# Altium footprint library PcbLib1.PcbLib: 13 footprints
Each footprint in its own frame and in the unit in brackets; x right, y up, seen from the top. Pads: shape width x height; smd on the part's side, far side on the other; paste and mask are expansions set on the pad; w line width, h text height; cw(c..) or ccw(c..) is an arc to the next point about the centre after c.
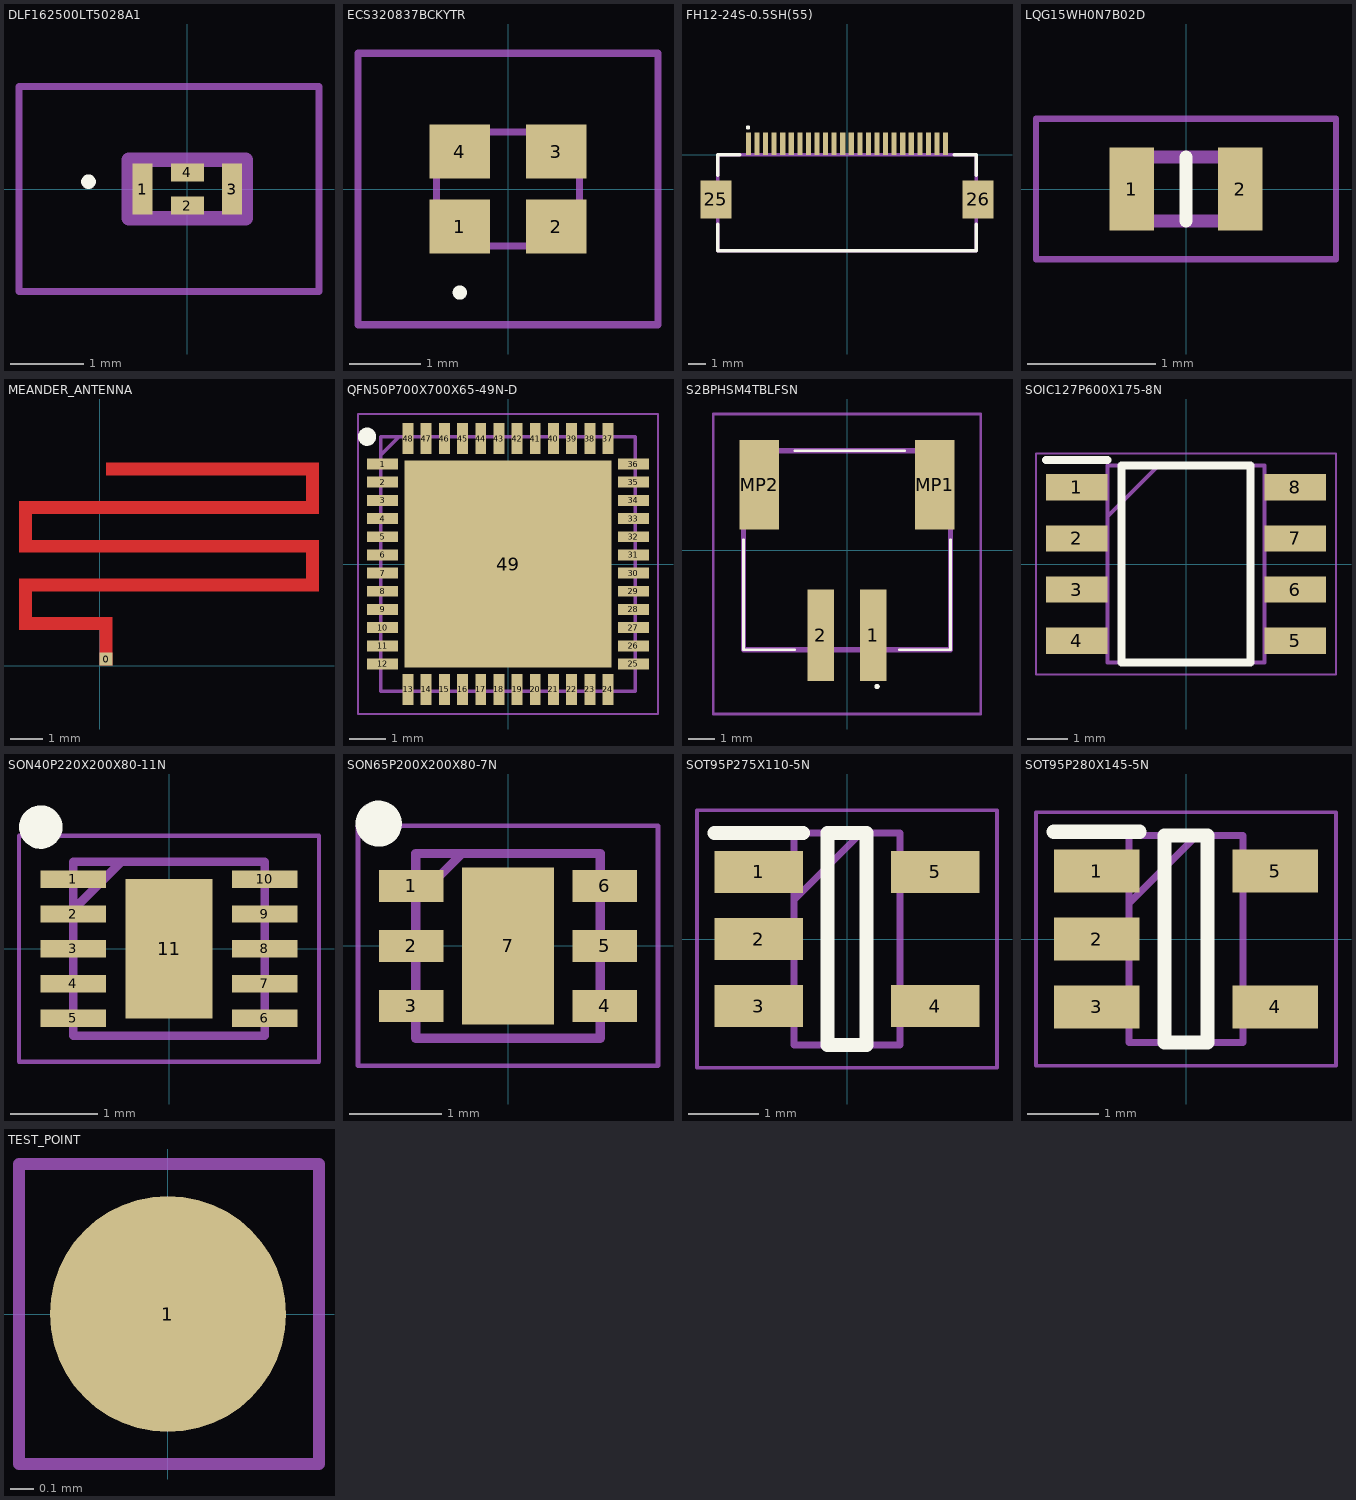
[diagram p0: the footprints below, top view; thin cyan lines are the x and y axes]

## DLF162500LT5028A1 [mm]
pads (4):
  rect 0.275x0.7 smd: 1(-0.612,0) 3(0.613,0)
  rect 0.45x0.245 smd: 2(0,-0.227) 4(0,0.227)
Top Overlay:
  lines w0.1: -1.4,0.1 cw(c-1.35,0.1) -1.3,0.1 cw(c-1.35,0.1) -1.4,0.1
Mechanical 13:
  lines w0.2: -0.8,-0.4 0.8,-0.4 0.8,0.4 -0.8,0.4 -0.8,-0.4
Mechanical 15:
  lines w0.1: -2.3,-1.4 1.8,-1.4 1.8,1.4 -2.3,1.4 -2.3,-1.4
3D body "DLF162500LT-5028A1.stp": height 0.26, standoff 0, extent -0.826,-0.419 0.826,0.419

## ECS320837BCKYTR [mm]
pads (4):
  rect 0.85x0.75 smd: 1(-0.675,-0.525) 2(0.675,-0.525) 3(0.675,0.525) 4(-0.675,0.525)
Top Overlay:
  lines w0.1: -0.675,-1.5 cw(c-0.675,-1.45) -0.675,-1.4 cw(c-0.675,-1.45) -0.675,-1.5
Mechanical 13:
  lines w0.1: -1,-0.8 1,-0.8 1,0.8 -1,0.8 -1,-0.8
Mechanical 15:
  lines w0.1: -2.1,-1.9 2.1,-1.9 2.1,1.9 -2.1,1.9 -2.1,-1.9
3D body "ECS-320-8-37B-CKY-TR.stp": height 0.6, standoff 0, extent -1.025,-0.825 1.025,0.825

## FH12-24S-0.5SH(55) [mm]
pads (26):
  rect 0.3x1.3 smd: 1(-5.75,0.65) 2(-5.25,0.65) 3(-4.75,0.65) 4(-4.25,0.65) 5(-3.75,0.65) 6(-3.25,0.65) 7(-2.75,0.65) 8(-2.25,0.65) 9(-1.75,0.65) 10(-1.25,0.65) 11(-0.75,0.65) 12(-0.25,0.65) 13(0.25,0.65) 14(0.75,0.65) 15(1.25,0.65) 16(1.75,0.65) 17(2.25,0.65) 18(2.75,0.65) 19(3.25,0.65) 20(3.75,0.65) 21(4.25,0.65) 22(4.75,0.65) 23(5.25,0.65) 24(5.75,0.65)
  rect 1.8x2.2 smd: 25(-7.65,-2.6) 26(7.65,-2.6)
Top Overlay:
  circle w0.2: c-5.777,1.597 r0.025
  lines w0.2: -7.55,-4.051 -7.55,-5.6 7.55,-5.6 7.55,-4.051 ; -7.55,-1.2 -7.55,0 -6.252,0 ; 6.252,0 7.55,0 7.55,-1.2
Mechanical 13:
  lines w0.2: -7.55,-5.6 7.55,-5.6 7.55,0 -7.55,0 -7.55,-5.6
3D body "FH12-24S-0.5SH_55_.stp": height 2.1, standoff 0, extent -8.053,-5.252 8.047,1.148

## LQG15WH0N7B02D [mm]
pads (2):
  rect 0.35x0.65 smd: 1(-0.425,0) 2(0.425,0)
Top Overlay:
  lines w0.1: 0,-0.25 0,0.25
Mechanical 13:
  lines w0.1: -0.5,-0.25 0.5,-0.25 0.5,0.25 -0.5,0.25 -0.5,-0.25
Mechanical 15:
  lines w0.05: -1.175,-0.55 1.175,-0.55 1.175,0.55 -1.175,0.55 -1.175,-0.55
3D body "LQG15HS2N7S02D.stp": height 0.55, standoff 0, extent -0.5,-0.25 0.5,0.25

## MEANDER_ANTENNA [mm] "2.4GHz meander antenna"
pads (1):
  rect 0.4x0.4 smd: 0(0.2,0.2)
Top Layer:
  rectangle: 0.2,5.9 6.8,6.3
  rectangle: 6.4,4.7 6.8,6.3
  rectangle: -2.5,4.7 6.8,5.1
  rectangle: -2.5,3.5 -2.1,5.1
  rectangle: -2.5,3.5 6.8,3.9
  rectangle: 6.4,2.3 6.8,3.9
  rectangle: -2.5,2.3 6.8,2.7
  rectangle: -2.5,1.1 -2.1,2.7
  rectangle: -2.5,1.1 0.4,1.5
  rectangle: 0,0 0.4,1.5

## QFN50P700X700X65-49N-D [mm]
pads (49):
  rect 0.85x0.3 smd: 1(-3.45,2.75) 2(-3.45,2.25) 3(-3.45,1.75) 4(-3.45,1.25) 5(-3.45,0.75) 6(-3.45,0.25) 7(-3.45,-0.25) 8(-3.45,-0.75) 9(-3.45,-1.25) 10(-3.45,-1.75) 11(-3.45,-2.25) 12(-3.45,-2.75) 25(3.45,-2.75) 26(3.45,-2.25) 27(3.45,-1.75) 28(3.45,-1.25) 29(3.45,-0.75) 30(3.45,-0.25) 31(3.45,0.25) 32(3.45,0.75) 33(3.45,1.25) 34(3.45,1.75) 35(3.45,2.25) 36(3.45,2.75)
  rect 0.3x0.85 smd: 13(-2.75,-3.45) 14(-2.25,-3.45) 15(-1.75,-3.45) 16(-1.25,-3.45) 17(-0.75,-3.45) 18(-0.25,-3.45) 19(0.25,-3.45) 20(0.75,-3.45) 21(1.25,-3.45) 22(1.75,-3.45) 23(2.25,-3.45) 24(2.75,-3.45) 37(2.75,3.45) 38(2.25,3.45) 39(1.75,3.45) 40(1.25,3.45) 41(0.75,3.45) 42(0.25,3.45) 43(-0.25,3.45) 44(-0.75,3.45) 45(-1.25,3.45) 46(-1.75,3.45) 47(-2.25,3.45) 48(-2.75,3.45)
  rect 5.7x5.7 smd: 49(0,0)
Top Overlay:
  circle w0.25: c-3.875,3.5 r0.125
Mechanical 13:
  lines w0.1: -3.5,3 -3,3.5 ; -3.5,-3.5 3.5,-3.5 3.5,3.5 -3.5,3.5 -3.5,-3.5
Mechanical 15:
  lines w0.05: -4.125,-4.125 4.125,-4.125 4.125,4.125 -4.125,4.125 -4.125,-4.125
3D body "STM32WB35CCU6AXXX.stp": height 0.61, standoff 0, extent -3.556,-3.556 3.556,3.556

## S2BPHSM4TBLFSN [mm]
pads (4):
  rect 1x3.5 smd: 1(1,-3.25) 2(-1,-3.25)
  rect 1.5x3.4 smd: MP1(3.35,2.5) MP2(-3.35,2.5)
Top Overlay:
  lines w0.1: -3.95,0.4 -3.95,-3.8 -2,-3.8 ; -2,3.8 2.2,3.8 ; 2,-3.8 3.95,-3.8 3.95,0.4 ; 1.1,-5.2 cw(c1.15,-5.2) 1.2,-5.2 cw(c1.15,-5.2) 1.1,-5.2
Mechanical 13:
  lines w0.2: -3.95,-3.8 3.95,-3.8 3.95,3.8 -3.95,3.8 -3.95,-3.8
Mechanical 15:
  lines w0.1: -5.1,-6.25 5.1,-6.25 5.1,5.2 -5.1,5.2 -5.1,-6.25
3D body "S2B-PH-SM4-TB_LF__SN_.stp": height 5.6, standoff 0, extent -3.95,-4.83 3.95,3.77

## SOIC127P600X175-8N [mm]
pads (8):
  rect 1.525x0.65 smd: 1(-2.712,1.905) 2(-2.712,0.635) 3(-2.712,-0.635) 4(-2.712,-1.905) 5(2.712,-1.905) 6(2.712,-0.635) 7(2.712,0.635) 8(2.712,1.905)
Top Overlay:
  lines w0.2: -3.475,2.58 -1.95,2.58 ; -1.6,-2.45 1.6,-2.45 1.6,2.45 -1.6,2.45 -1.6,-2.45
Mechanical 13:
  lines w0.1: -1.95,1.18 -0.68,2.45 ; -1.95,-2.45 1.95,-2.45 1.95,2.45 -1.95,2.45 -1.95,-2.45
Mechanical 15:
  lines w0.05: -3.725,-2.75 3.725,-2.75 3.725,2.75 -3.725,2.75 -3.725,-2.75
3D body "NE555DR.stp": height 1.75, standoff 0, extent -3,-2.45 3,2.45

## SON40P220X200X80-11N [mm]
pads (11):
  rect 0.75x0.2 smd: 1(-1.1,0.8) 2(-1.1,0.4) 3(-1.1,0) 4(-1.1,-0.4) 5(-1.1,-0.8) 6(1.1,-0.8) 7(1.1,-0.4) 8(1.1,0) 9(1.1,0.4) 10(1.1,0.8)
  rect 1x1.6 smd: 11(0,0)
Top Overlay:
  circle w0.25: c-1.475,1.4 r0.125
Mechanical 13:
  lines w0.1: -1.1,0.45 -0.55,1 ; -1.1,-1 -1.1,1 1.1,1 1.1,-1 -1.1,-1
Mechanical 15:
  lines w0.05: -1.725,-1.3 -1.725,1.3 1.725,1.3 1.725,-1.3 -1.725,-1.3
3D body "BQ25185DLHR.stp": height 0.8, standoff 0, extent -1.15,-1 1.15,1

## SON65P200X200X80-7N [mm]
pads (7):
  rect 0.7x0.35 smd: 1(-1.05,0.65) 2(-1.05,0) 3(-1.05,-0.65) 4(1.05,-0.65) 5(1.05,0) 6(1.05,0.65)
  rect 1x1.7 smd: 7(0,0)
Top Overlay:
  circle w0.25: c-1.4,1.325 r0.125
Mechanical 13:
  lines w0.1: -1,0.5 -0.5,1 ; -1,-1 1,-1 1,1 -1,1 -1,-1
Mechanical 15:
  lines w0.05: -1.625,-1.3 1.625,-1.3 1.625,1.3 -1.625,1.3 -1.625,-1.3
3D body "TPS74533PQWDRVRQ1.stp": height 0.77, standoff 0, extent -1,-1 1,1

## SOT95P275X110-5N [mm]
pads (5):
  rect 1.25x0.6 smd: 1(-1.25,0.95) 2(-1.25,0) 3(-1.25,-0.95) 4(1.25,-0.95) 5(1.25,0.95)
Top Overlay:
  lines w0.2: -1.875,1.5 -0.625,1.5 ; -0.275,-1.5 0.275,-1.5 0.275,1.5 -0.275,1.5 -0.275,-1.5
Mechanical 13:
  lines w0.1: -0.75,0.55 0.2,1.5 ; -0.75,-1.5 0.75,-1.5 0.75,1.5 -0.75,1.5 -0.75,-1.5
Mechanical 15:
  lines w0.05: -2.125,-1.825 2.125,-1.825 2.125,1.825 -2.125,1.825 -2.125,-1.825
3D body "NCP164CSN330T1G.stp": height 1.1, standoff 0, extent -1.375,-1.5 1.375,1.5

## SOT95P280X145-5N [mm]
pads (5):
  rect 1.2x0.6 smd: 1(-1.25,0.95) 2(-1.25,0) 3(-1.25,-0.95) 4(1.25,-0.95) 5(1.25,0.95)
Top Overlay:
  lines w0.2: -1.85,1.5 -0.65,1.5 ; -0.3,-1.45 -0.3,1.45 0.3,1.45 0.3,-1.45 -0.3,-1.45
Mechanical 13:
  lines w0.1: -0.8,0.5 0.15,1.45 ; -0.8,-1.45 -0.8,1.45 0.8,1.45 0.8,-1.45 -0.8,-1.45
Mechanical 15:
  lines w0.05: -2.1,-1.775 -2.1,1.775 2.1,1.775 2.1,-1.775 -2.1,-1.775
3D body "TPS7A2030PDBVR.stp": height 1.2, standoff 0, extent -1.4,-1.45 1.4,1.45

## TEST_POINT [mm]
pads (1):
  round 1 smd paste-1: 1(0,0)
Top Designator:
  text ".Designator" at -0.176,-1.194 h0.8
Top Assembly:
  lines w0.05: -0.631,-0.635 -0.631,0.635 0.639,0.635 0.639,-0.635 -0.631,-0.635